# EAGLE library part STTS751 (library ForceTronics)
STTS751 Temperature sensor with SOT23-6L package
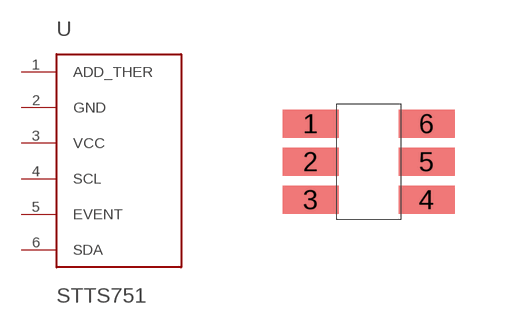
[diagram p7: symbol with the pads of STTS751-SOT23-6L; footprint STTS751-SOT23-6L]

Designator prefix -

## STTS751  [STTS751-SOT23-6L]
1  ADD_THER
2  GND
3  VCC
4  SCL
5  EVENT
6  SDA

## Footprint STTS751-SOT23-6L (pad centres in mm)
Temperature sensor with package SOT23-6L
smd 1.4 x 0.7: 1 -0.65,2.4; 2 -0.65,1.45; 3 -0.65,0.5; 4 2.25,0.5; 5 2.25,1.45; 6 2.25,2.4